# Altium schematic symbol library Copy of SIM800L.SchLib: 1 symbol
Pins are listed as number, name and electrical type; pins without a type are passive.

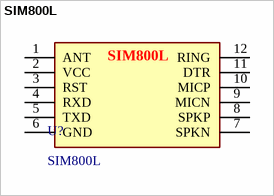
[diagram p0: symbol SIM800L]

## SIM800L
designator U?
Publisher: 3DFootprint.ir
footprint SIM800L (Footprint not found)
pins: 1 ANT, 2 VCC (power), 3 RST, 4 RXD, 5 TXD, 6 GND (power), 7 SPKN, 8 SPKP, 9 MICN, 10 MICP, 11 DTR, 12 RING